# Altium footprint library Misc.PcbLib: 1 footprints
Each footprint in its own frame and in the unit in brackets; x right, y up, seen from the top. Pads: shape width x height; smd on the part's side, far side on the other; paste and mask are expansions set on the pad; w line width, h text height; cw(c..) or ccw(c..) is an arc to the next point about the centre after c.
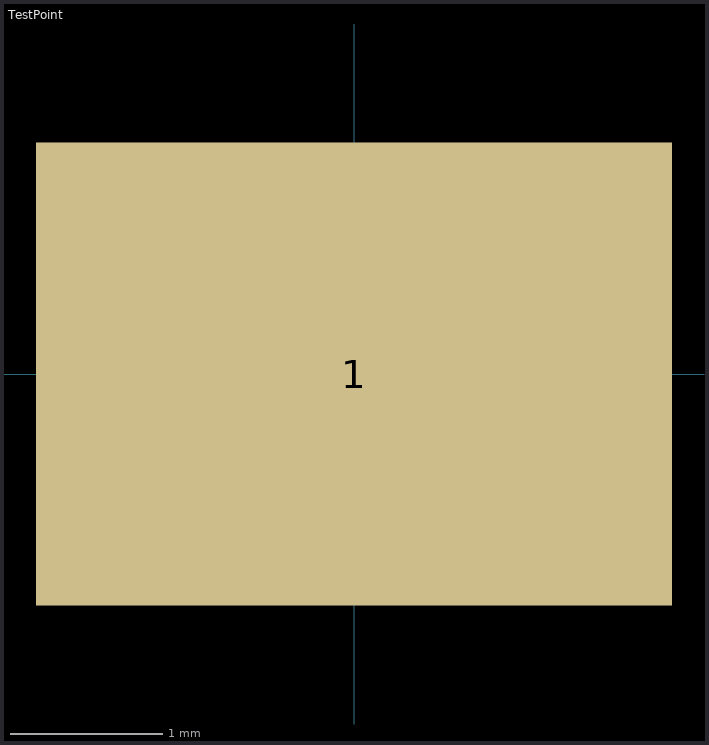
[diagram p0: the footprint, top view; thin cyan lines are the x and y axes]

## TestPoint [mil]
pads (1):
  rect 165x120 smd: 1(0,0)
3D body: height 93.55, standoff 3, extent -74,-55 75.61,55.24